# Altium schematic symbol library Capacitors.SchLib: 161 symbols (part 6 of 6)
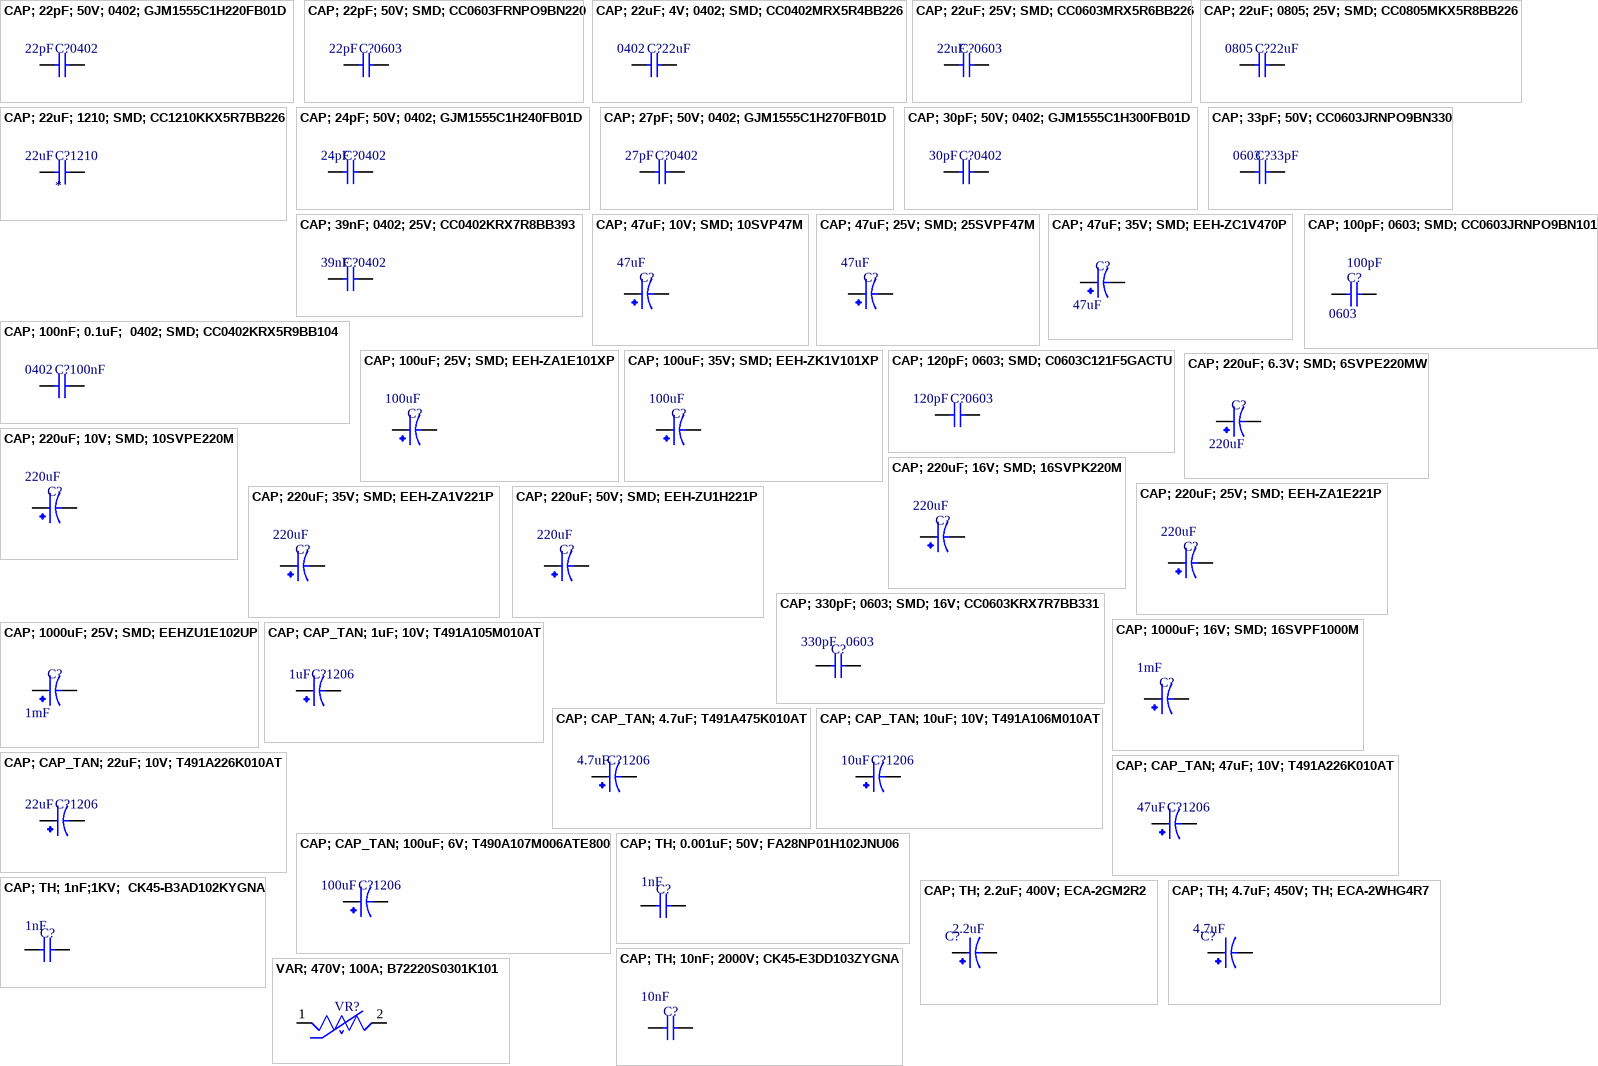
[diagram p9: symbols CAP; 22pF; 50V; 0402; GJM1555C1H220FB01D to VAR; 470V; 100A; B72220S0301K101]

## CAP; TH; 2.2uF; 400V; ECA-2GM2R2
designator C?, comment value 2.2uF  (hidden comment: 2.2 µF 400 V Aluminum Electrolytic Capacitors Radial, Can 2000 Hrs @ 85°C)
Cap Aluminum Lytic 2.2uF 400V 20% (8 X 11.5mm) Radial 3.5mm 50mA 2000h 85C Automotive Bulk; Manufacturer: Panasonic; Manufacturer Part Number: ECA-2GM2R2; Designer: TVBac; Supplier: Mouser; Supplier Part Number: 667-ECA-2GM2R2; RoHS: Yes; Category: Aluminum Electrolytic Capacitors; Stock: 1247; Pricing: 1=0.45, 10=0.221, 50=0.221, 100=0.142, 1000=0.119, 10000=0.096 (USD); Pins: 2NUMBER; Lead Free: 5697LeadFree; ComponentLink1URL: https://datasheet.ciiva.com/48522/radial-m-eng-tds-48522426.pdf?src-supplier=Distrelec; ComponentLink1Description: https://datasheet.ciiva.com/48522/radial-m-eng-tds-48522426.pdf?src-supplier=Distrelec; ComponentLink2Description: Link Digikey; ComponentLink2URL: https://www.digikey.com/en/products/detail/panasonic-electronic-components/ECA-2GM2R2/2688912
footprint TH-CAP-HxD-12.5x8.0-PEC
pins: 1, 2

## CAP; TH; 4.7uF; 450V; TH; ECA-2WHG4R7
designator C?, comment value 4.7uF  (hidden comment: 4.7 µF 450 V Aluminum Electrolytic Capacitors Radial, Can 2000 Hrs @ 105°C)
Aluminum Electrolytic Capacitor, 4.7 uF, 450 V, ± 20%, 2000 hours @ 105°C, Radial Leaded; Manufacturer: Panasonic; Manufacturer Part Number: ECA-2WHG4R7; Dielectric Material: Aluminium; Ripple Current: 49mA; Voltage Rating: 450V; Leakage Current: 10uA; Dissipation Factor: 0.24%; Lead/Base Style: Straight; Lead Diameter: 0.6mm; Designer: TVBac; Supplier: Digikey; Supplier Part Number: P5875-ND; RoHS: Yes; Category: Aluminum Electrolytic Capacitors; Stock: 55739; Pricing: 1=0.51, 10=0.36, 50=0.3032, 200=0.24685, 600=0.20572, 1000=0.19062 (USD); Mounting Technology: Through Hole,PCB; Case/Package: Radial; Pins: 2; Min Operating Temperature: -25°C; Max Operating Temperature: 105°C; Packaging: Bulk; Tolerance: 20%; Ripple Current (AC): 49mA; Voltage Rating (DC): 450V; Package Quantity: 200; Termination: Radial; Life (Hours): 2000Hour; Voltage: 450V; Series: NHG; Construction: RADIAL; Voltage Rating (AC): 450V; Diameter: 10mm; Length: 20mm; Height: 20mm; Lead Pitch: 5mm; Radiation Hardening: No; Reach SVHC Compliant: No; Lead Free: Lead Free; RoHS Compliant: Yes; ComponentLink1URL: https://datasheet.ciiva.com/11779/0900766b800301b8-11779782.pdf?src-supplier=Rs; ComponentLink1Description: https://datasheet.ciiva.com/11779/0900766b800301b8-11779782.pdf?src-supplier=Rs; ComponentLink2URL: https://datasheet.ciiva.com/48519/radial-nhg-eng-tds-48519690.pdf?src-supplier=Distrelec; ComponentLink2Description: https://datasheet.ciiva.com/48519/radial-nhg-eng-tds-48519690.pdf?src-supplier=Distrelec; ComponentLink3URL: https://datasheet.ciiva.com/14596/70067776-14596169.pdf?src-supplier=Allied+Electronics; ComponentLink3Description: https://datasheet.ciiva.com/14596/70067776-14596169.pdf?src-supplier=Allied+Electronics; ComponentLink4URL: https://datasheet.ciiva.com/43485/1504317-43485311.pdf?src-supplier=Farnell; ComponentLink4Description: https://datasheet.ciiva.com/43485/1504317-43485311.pdf?src-supplier=Farnell; ComponentLink5URL: https://datasheet.ciiva.com/2984/aba0000ce26-2984453.pdf?src-supplier=Avnet; ComponentLink5Description: https://datasheet.ciiva.com/2984/aba0000ce26-2984453.pdf?src-supplier=Avnet; ComponentLink6URL: https://datasheet.ciiva.com/16201/aba0000ce26-16201703.pdf?src-supplier=Future+Electronics; ComponentLink6Description: https://datasheet.ciiva.com/16201/aba0000ce26-16201703.pdf?src-supplier=Future+Electronics; ComponentLink7Description: Link Digikey; ComponentLink7URL: https://www.digikey.com/en/products/detail/panasonic-electronic-components/ECA-2WHG4R7/245224
footprint TH-CAP-HxD-22.0x10.0
pins: 1, 2

## CAP; TH; 10nF; 2000V; CK45-E3DD103ZYGNA
designator C?, comment value 10nF  (hidden comment: 10000 pF -20%, +80% 2000V (2kV) Ceramic Capacitor E Radial, Disc)
Cap Ceramic Single 0.01uF 2000V E -20% to 80% (14.5 X 5mm) Radial Disc 7.5mm 105°C Bag; Manufacturer: TDK; Manufacturer Part Number: CK45-E3DD103ZYGNA; Lead/Base Style: Kinked; Designer: TVBac; Supplier: Arrow Electronics; Supplier Part Number: CK45-E3DD103ZYGNA; RoHS: Yes; Category: Ceramic Capacitors; Stock: 2341; Pricing: 2000=0.2176, 200000=0.2103, 400000=0.2081 (USD); Mounting Technology: Through Hole; Case/Package: Radial; Contact Plating: Tin; Min Operating Temperature: -25°C; Max Operating Temperature: 105°C; Series: CK45; Packaging: Bulk; Tolerance: 80%; Voltage Rating: 2kV; RoHS Compliant: Yes; ComponentLink1URL: https://product.tdk.com/info/en/catalog/datasheets/leaddisc_commercial_ck45_en.pdf?src-supplier=Avnet; ComponentLink1Description: https://product.tdk.com/info/en/catalog/datasheets/leaddisc_commercial_ck45_en.pdf?src-supplier=Avnet; ComponentLink2URL: https://product.tdk.com/info/en/catalog/datasheets/leaddisc_commercial_ck45_en.pdf?src-supplier=Digikey; ComponentLink2Description: https://product.tdk.com/info/en/catalog/datasheets/leaddisc_commercial_ck45_en.pdf?src-supplier=Digikey; ComponentLink3Description: Link Digikey; ComponentLink3URL: https://www.digikey.com/en/products/detail/tdk-corporation/CK45-E3DD103ZYGNA/7383789
footprint TH-CAP-HxD-18.5x7.5-TDKC
pins: 1, 2

## VAR; 470V; 100A; B72220S0301K101
designator VR?, comment 470 V 8 kA Varistor 1 Circuit Through Hole Disc 20mm  (value not drawn)
Epcos St&ard Series Metal Oxide Varistor 580pF 100A; Clamping 775V; Varistor 470V; Manufacturer: TDK EPCOS; Manufacturer Part Number: B72220S0301K101; Designer: TVBac; Supplier: Digikey; Supplier Part Number: 495-2406-ND; RoHS: Yes; Category: Varistors; Stock: 16323; Pricing: 1=0.84, 10=0.737, 25=0.6924, 100=0.5652, 250=0.52496, 500=0.44676, 1000=0.35741, 2500=0.3239, 5000=0.31025 (USD); ComponentLink1URL: https://datasheet.ciiva.com/11834/0900766b80188ddb-11834361.pdf?src-supplier=Rs; ComponentLink1Description: https://datasheet.ciiva.com/11834/0900766b80188ddb-11834361.pdf?src-supplier=Rs; ComponentLink2URL: https://datasheet.ciiva.com/4540/siov-leaded-standard-4540645.pdf?src-supplier=Mouser; ComponentLink2Description: https://datasheet.ciiva.com/4540/siov-leaded-standard-4540645.pdf?src-supplier=Mouser; ComponentLink3URL: https://datasheet.ciiva.com/1278/1899727-1278204.pdf?src-supplier=Element14; ComponentLink3Description: https://datasheet.ciiva.com/1278/1899727-1278204.pdf?src-supplier=Element14; ComponentLink4Description: Link Digikey; ComponentLink4URL: https://www.digikey.com/en/products/detail/epcos-tdk-electronics/B72220S0301K101/651287
footprint VARISTOR-ETE
pins: 1, 2

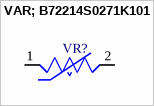
[diagram p4: symbol VAR; B72214S0271K101]

## VAR; B72214S0271K101
designator VR?, comment Var MOV 275VAC/350VDC 4500A 430V Thru-Hole Radial Automotive Bulk  (value not drawn)
Manufacturer: TDK EPCOS; Manufacturer Part Number: B72214S0271K101; Designer: TVBac; Supplier: Digikey; Supplier Part Number: 495-1412-ND; RoHS: Yes; Category: Varistors; Stock: 42424; Pricing: 1=0.76, 10=0.46, 25=0.3804, 100=0.2902, 250=0.24588, 500=0.21856, 1000=0.19569, 2500=0.17105, 5000=0.15589 (USD); ComponentLink1URL: https://datasheet.ciiva.com/11834/0900766b80188ddb-11834422.pdf?src-supplier=Rs; ComponentLink1Description: https://datasheet.ciiva.com/11834/0900766b80188ddb-11834422.pdf?src-supplier=Rs; ComponentLink2URL: https://datasheet.ciiva.com/4540/siov-leaded-standard-4540892.pdf?src-supplier=Mouser; ComponentLink2Description: https://datasheet.ciiva.com/4540/siov-leaded-standard-4540892.pdf?src-supplier=Mouser; ComponentLink3URL: https://datasheet.ciiva.com/1278/1899727-1278041.pdf?src-supplier=Element14; ComponentLink3Description: https://datasheet.ciiva.com/1278/1899727-1278041.pdf?src-supplier=Element14
footprint VARISTOR-TDK
pins: 1, 2